# EAGLE library part BAS40-05V (library nxp_60)
General-purpose Schottky diodes General-purpose Schottky diodes in small Surface-Mounted Device (SMD) plastic packages. AAL Eindhoven MK
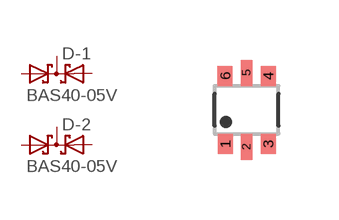
[diagram p88: symbol with the pads of SOT666; footprint SOT666]

Designator prefix D; gates -1=DIODE_SDD_AKKA -2=DIODE_SDD_AKKA

## BAS40-05V  [SOT666]
1  -1:A1  pas
2  -1:A2  pas
3  -2:K1K2  pas
4  -2:A1  pas
5  -2:A2  pas
6  -1:K1K2  pas

## Footprint SOT666 (pad centres in mm)
SOT 666 Reflow soldering foorprint Source: Philips - BAS70_1PS7XSB70_SER_8.pdf
smd 0.375 x 0.5: 1 -0.537,-0.85; 3 0.538,-0.85; 4 0.538,0.85; 6 -0.538,0.85
smd 0.3 x 0.65: 2 0,-0.925; 5 0,0.925